# EAGLE library part CAN_15V (library #PaJa_konektory)
Konektory CANNON - vidlice - 15pinu
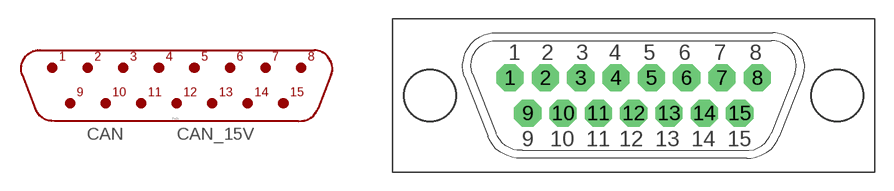
[diagram p2: symbol with the pads of CAN15V; footprint CAN15V]

Designator prefix CAN

## CAN_15V  [CAN15V]
1  1  pas
2  2  pas
3  3  pas
4  4  pas
5  5  pas
6  6  pas
7  7  pas
8  8  pas
9  9  pas
10  10  pas
11  11  pas
12  12  pas
13  13  pas
14  14  pas
15  15  pas

## Footprint CAN15V (pad centres in mm)
drill 1.016 pad 2.184 octagon: 1 -9.842,1.27; 2 -6.985,1.27; 3 -4.128,1.27; 4 -1.27,1.27; 5 1.587,1.27; 6 4.445,1.27; 7 7.303,1.27; 8 10.16,1.27; 9 -8.414,-1.587; 10 -5.556,-1.587; 11 -2.699,-1.587; 12 0.159,-1.587; 13 3.016,-1.587; 14 5.874,-1.587; 15 8.731,-1.587
hole 4.115 at 16.637,-0.159
hole 4.115 at -16.32,-0.159